# Altium footprint library Common.PcbLib: 29 footprints (part 1 of 2)
Each footprint in its own frame and in the unit in brackets; x right, y up, seen from the top. Pads: shape width x height; smd on the part's side, far side on the other; paste and mask are expansions set on the pad; w line width, h text height; cw(c..) or ccw(c..) is an arc to the next point about the centre after c.
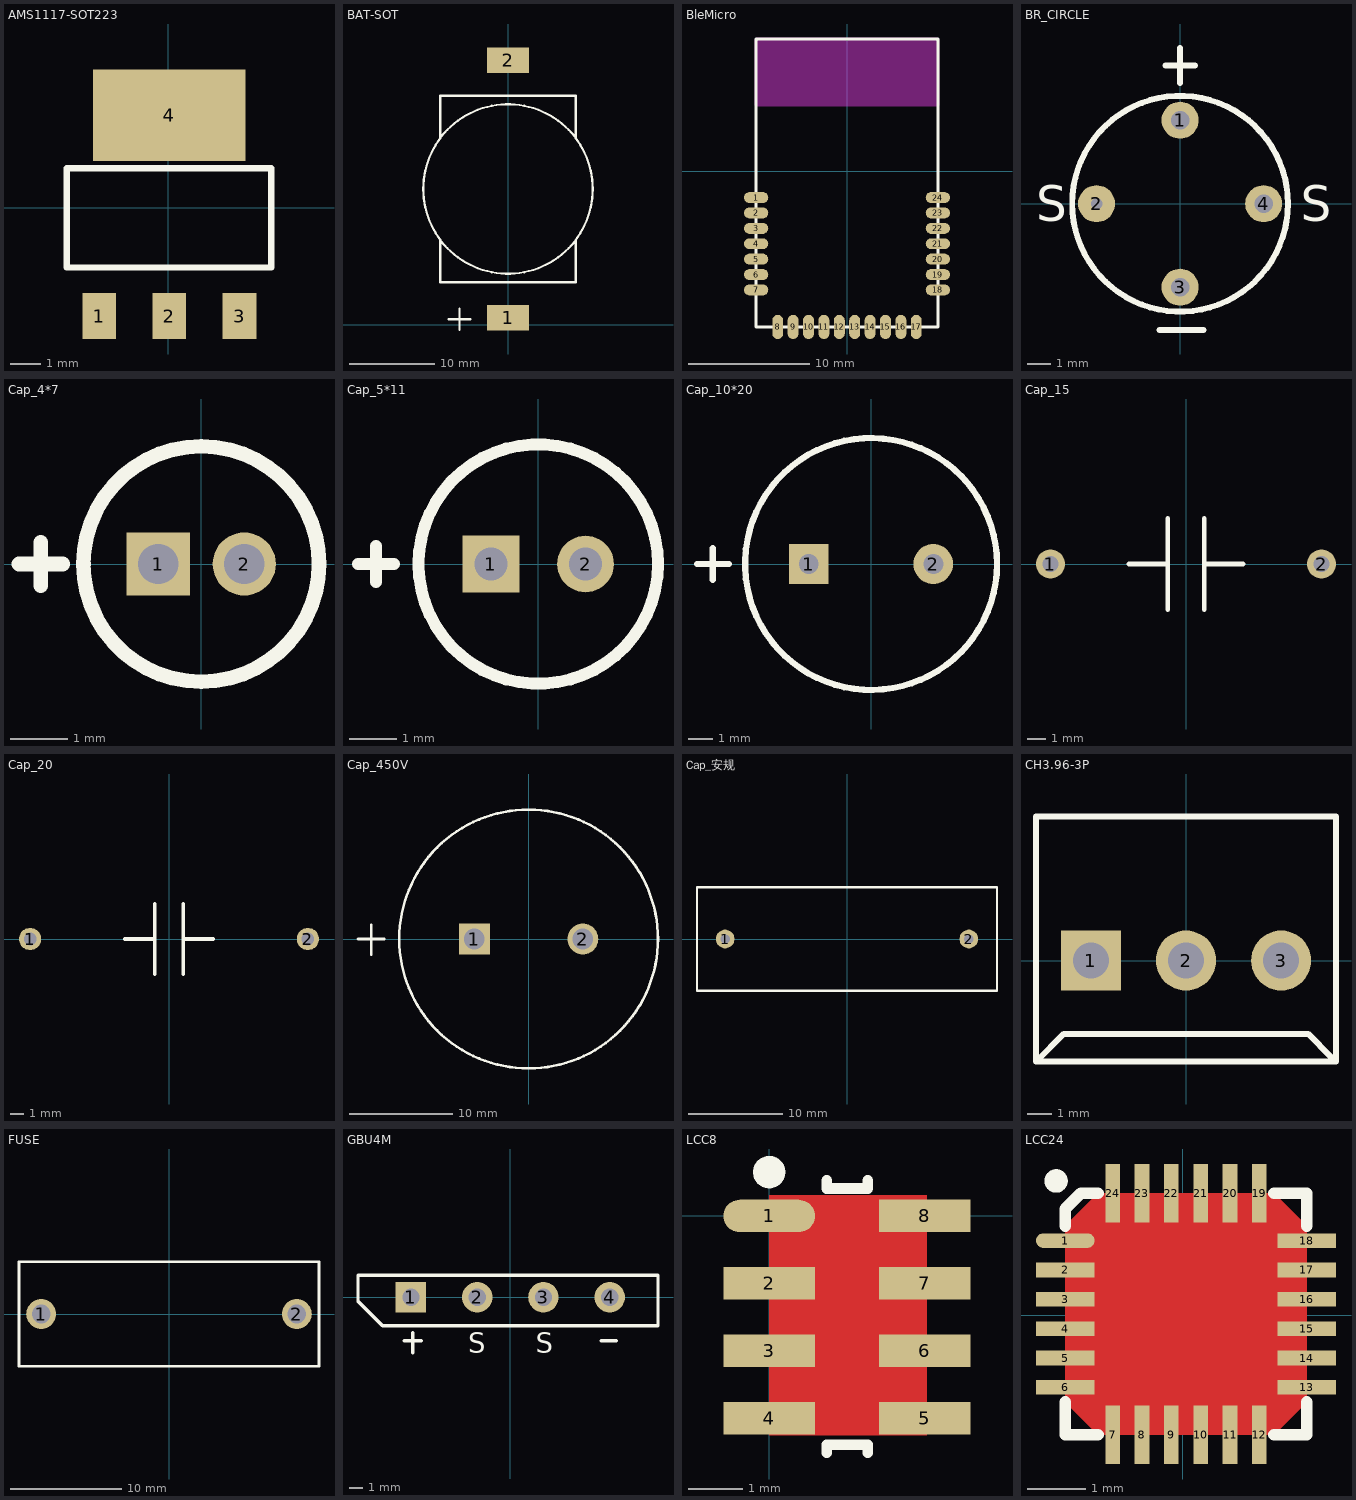
[diagram p0: the footprints below, top view; thin cyan lines are the x and y axes]

## AMS1117-SOT223 [mm]
pads (4):
  rect 1.1x1.5 smd: 1(-2.264,-3.548) 2(0.036,-3.548) 3(2.336,-3.548)
  rect 5x3 smd: 4(0.03,3.028)
Top Overlay:
  lines w0.2: -3.325,-1.956 -3.325,1.294 3.375,1.294 3.375,-1.956 -3.325,-1.956
3D body: height 1.7, standoff 0, extent -3.195,-3.78 3.305,3.18

## BAT-SOT [mm] "贴片封装"
height 5.5
pads (2):
  rect 5x3 smd: 1(0,0.8) 2(0,31.2)
Top Overlay:
  circle w0.254: c0,16 r10
  lines w0.254: -8,10.032 -8,5 8,5 8,9.905 ; -8,21.972 -8,27 8,27 8,21.972 ; -6.985,0.635 -4.445,0.635 ; -5.715,-0.635 -5.715,1.905

## BleMicro [mm]
height 1.7
pads (24):
  oval 2x0.9 smd: 1(-7.493,-2.159) 2(-7.493,-3.429) 3(-7.493,-4.699) 4(-7.493,-5.969) 5(-7.493,-7.239) 6(-7.493,-8.509) 7(-7.493,-9.779) 18(7.493,-9.779) 19(7.493,-8.509) 20(7.493,-7.239) 21(7.493,-5.969) 22(7.493,-4.699) 23(7.493,-3.429) 24(7.493,-2.159)
  oval 0.9x2 smd: 8(-5.715,-12.827) 9(-4.445,-12.827) 10(-3.175,-12.827) 11(-1.905,-12.827) 12(-0.635,-12.827) 13(0.635,-12.827) 14(1.905,-12.827) 15(3.175,-12.827) 16(4.445,-12.827) 17(5.715,-12.827)
Top Overlay:
  lines w0.254: -7.493,-12.827 7.493,-12.827 7.493,10.922 -7.493,10.922 -7.493,-12.827
Keep-Out Layer:
  board cut-out: -7.493,10.922 -7.493,5.461 7.493,5.461 7.493,10.922
  lines w0.254: -7.493,5.461 7.493,5.461 7.493,10.922 -7.493,10.922 -7.493,5.461

## BR_CIRCLE [mm]
height 5.35
pads (4):
  round 1.6 hole 0.8: 1(0,3.606) 3(0,-3.606) 4(3.606,0)
  round 1.6 hole 0.5: 2(-3.606,0)
Top Overlay:
  circle w0.254: c0,0 r4.659
  lines w0.254: -0.889,-5.461 1.016,-5.461 ; -0.635,5.969 0.635,5.969 ; 0,5.207 0,6.731
  text "S" at 5.207,-0.762 h1.52
  text "S" at -6.223,-0.762 h1.52

## Cap_4*7 [mm]
height 7
pads (2):
  rect 1.1x1.1 hole 0.7: 1(-0.75,0)
  round 1.1 hole 0.7: 2(0.75,0)
Top Overlay:
  circle w0.254: c0,0 r2.052
  lines w0.254: -3.175,0 -2.413,0 ; -2.794,-0.381 -2.794,0.381

## Cap_5*11 [mm]
height 11
pads (2):
  rect 1.2x1.2 hole 0.7: 1(-1,0)
  round 1.2 hole 0.7: 2(1,0)
Top Overlay:
  circle w0.254: c0,0 r2.53
  lines w0.254: -3.81,0 -3.048,0 ; -3.429,-0.381 -3.429,0.381

## Cap_10*20 [mm]
height 20
pads (2):
  rect 1.6x1.6 hole 0.8: 1(-2.5,0)
  round 1.6 hole 0.8: 2(2.5,0)
Top Overlay:
  circle w0.254: c0,0 r5.056
  lines w0.254: -6.985,0 -5.715,0 ; -6.35,-0.635 -6.35,0.635

## Cap_15 [mm] "CBB无极15mm脚距"
pads (2):
  round 1.6 hole 0.9: 1(-7.5,0) 2(7.5,0)
Top Overlay:
  lines w0.254: -3.175,0 -1.016,0 ; -1.016,-2.54 -1.016,2.54 ; 1.016,-2.54 1.016,2.54 ; 1.016,0 3.175,0

## Cap_20 [mm] "CBB无极20mm脚距"
pads (2):
  round 1.6 hole 0.9: 1(-10,0) 2(10,0)
Top Overlay:
  lines w0.254: -3.175,0 -1.016,0 ; -1.016,-2.54 -1.016,2.54 ; 1.016,-2.54 1.016,2.54 ; 1.016,0 3.175,0

## Cap_450V [mm]
height 42
pads (2):
  rect 3x3 hole 2: 1(-5.25,0)
  round 3 hole 2: 2(5.25,0)
Top Overlay:
  circle w0.254: c0,0 r12.524
  lines w0.254: -16.51,0 -13.97,0 ; -15.24,-1.524 -15.24,1.397

## Cap_安规 [mm]
height 20
pads (2):
  round 2 hole 1: 1(-13,0) 2(13,0)
Top Overlay:
  lines w0.254: -16,-5.5 -16,5.5 16,5.5 16,-5.5 -16,-5.5

## CH3.96-3P [mm] "接线端子插座"
pads (3):
  rect 2.5x2.5 hole 1.5: 1(-3.96,0)
  round 2.5 hole 1.5: 2(0,0) 3(3.96,0)
Top Overlay:
  lines w0.254: -6.24,-4.2 6.24,-4.2 ; 6.05,-4.018 5.08,-3.048 -5.08,-3.048 -6.24,-4.208 -6.24,6 6.24,6 6.24,-4.191

## FUSE [mm] "保险丝座"
height 17
pads (2):
  round 2.7 hole 1.7: 1(-11.5,0) 2(11.5,0)
Top Overlay:
  lines w0.254: -13.5,-4.7 13.5,-4.7 13.5,4.7 -13.5,4.7 -13.5,-4.7

## GBU4M [mm]
height 21
pads (4):
  rect 2.3x2.3 hole 1.3: 1(-7.5,0)
  round 2.3 hole 1.3: 2(-2.5,0) 3(2.5,0) 4(7.5,0)
Top Overlay:
  lines w0.254: -8.001,-3.302 -6.731,-3.302 ; -7.366,-4.191 -7.366,-2.667 ; 6.858,-3.302 8.001,-3.302 ; -11.5,-0.311 -9.651,-2.16 11.15,-2.16 11.15,1.651 -11.5,1.651 -11.5,-0.311
  text "S" at 1.905,-4.191 h1.52
  text "S" at -3.175,-4.191 h1.52

## LCC8 [mm]
pads (8):
  oval 1.7x0.6 smd: 1(0,0)
  rect 1.7x0.6 smd: 2(0,-1.25) 3(0,-2.5) 4(0,-3.75) 5(2.886,-3.75) 6(2.886,-2.5) 7(2.886,-1.25) 8(2.886,0)
Top Layer:
  pour cut-out: 0,0.381 0,-4.064 2.921,-4.064 2.921,0.381
Top Overlay:
  circle w0.3: c0,0.813 r0.15
  lines w0.2: 1.067,-4.392 1.067,-4.242 1.472,-4.242 ; 1.067,0.658 1.067,0.508 1.472,0.508 ; 1.422,-4.242 1.829,-4.242 1.829,-4.392 ; 1.422,0.508 1.829,0.508 1.829,0.658

## LCC24 [mm]
pads (24):
  oval 1x0.25 smd: 1(-2.001,1.27)
  rect 1x0.25 smd: 2(-2.001,0.77) 3(-2.001,0.27) 4(-2.001,-0.23) 5(-2.001,-0.73) 6(-2.001,-1.23) 13(2.109,-1.23) 14(2.109,-0.73) 15(2.109,-0.23) 16(2.109,0.27) 17(2.109,0.77) 18(2.109,1.27)
  rect 0.25x1 smd: 7(-1.196,-2.035) 8(-0.696,-2.035) 9(-0.196,-2.035) 10(0.304,-2.035) 11(0.804,-2.035) 12(1.304,-2.035) 19(1.304,2.075) 20(0.804,2.075) 21(0.304,2.075) 22(-0.196,2.075) 23(-0.696,2.075) 24(-1.196,2.075)
Top Layer:
  pour cut-out: -1.446,2.075 -2.001,1.52 -2.001,-1.48 -1.446,-2.035 1.554,-2.035 2.109,-1.48 2.109,1.52 1.554,2.075
Top Overlay:
  circle w0.2: c-2.159,2.286 r0.1
  lines w0.2: -2.001,-1.48 -2.001,-2.035 -1.446,-2.035 ; -2.001,1.52 -2.001,1.809 -1.735,2.075 -1.446,2.075 ; 1.554,-2.035 2.109,-2.035 ; 1.554,2.075 2.109,2.075 ; 2.109,-2.032 2.109,-1.48 ; 2.109,1.52 2.109,2.032